# EAGLE library part ATSAM3U4CA (library GadgetFactory_v1)
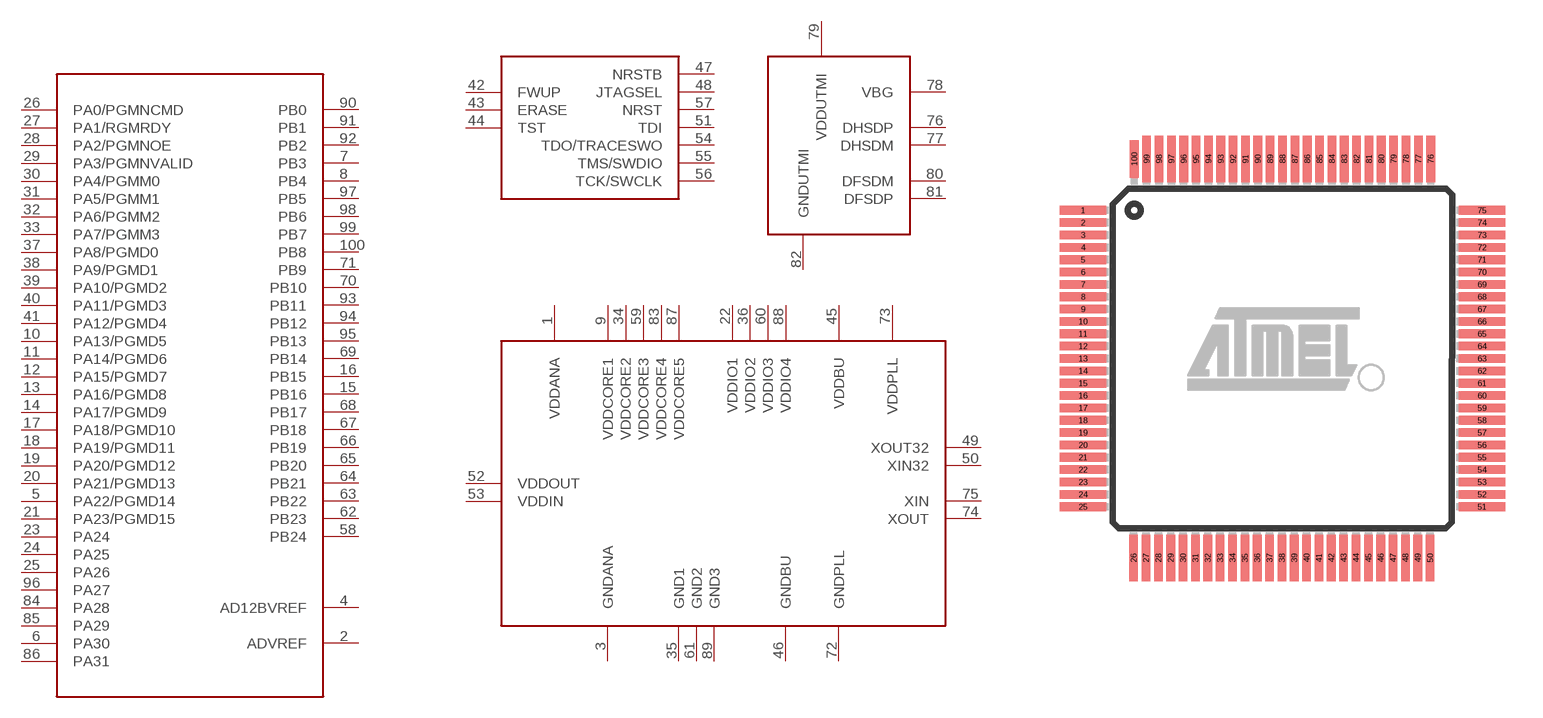
[diagram p51: symbol with the pads of LQFP100; footprint LQFP100]

Designator prefix U; gates IO=ATSAM3U4CA_IO JTAG_PGM=ATSAM3U4CA_JTAG_PGM PWR=ATSAM3U4CA_PWR USB=ATSAM3U4CA_USB

## ATSAM3U4CAAU  [LQFP100]
1  PWR:VDDANA  pwr
2  IO:ADVREF  in
3  PWR:GNDANA  pas
4  IO:AD12BVREF  in
5  IO:PA22/PGMD14
6  IO:PA30
7  IO:PB3
8  IO:PB4
9  PWR:VDDCORE1  pwr
10  IO:PA13/PGMD5
11  IO:PA14/PGMD6
12  IO:PA15/PGMD7
13  IO:PA16/PGMD8
14  IO:PA17/PGMD9
15  IO:PB16
16  IO:PB15
17  IO:PA18/PGMD10
18  IO:PA19/PGMD11
19  IO:PA20/PGMD12
20  IO:PA21/PGMD13
21  IO:PA23/PGMD15
22  PWR:VDDIO1  pwr
23  IO:PA24
24  IO:PA25
25  IO:PA26
26  IO:PA0/PGMNCMD
27  IO:PA1/RGMRDY
28  IO:PA2/PGMNOE
29  IO:PA3/PGMNVALID
30  IO:PA4/PGMM0
31  IO:PA5/PGMM1
32  IO:PA6/PGMM2
33  IO:PA7/PGMM3
34  PWR:VDDCORE2  pwr
35  PWR:GND1  pas
36  PWR:VDDIO2  pwr
37  IO:PA8/PGMD0
38  IO:PA9/PGMD1
39  IO:PA10/PGMD2
40  IO:PA11/PGMD3
41  IO:PA12/PGMD4
42  JTAG_PGM:FWUP  in
43  JTAG_PGM:ERASE  in
44  JTAG_PGM:TST  in
45  PWR:VDDBU  pwr
46  PWR:GNDBU  pas
47  JTAG_PGM:NRSTB  in
48  JTAG_PGM:JTAGSEL  in
49  PWR:XOUT32  out
50  PWR:XIN32  in
51  JTAG_PGM:TDI  in
52  PWR:VDDOUT  out
53  PWR:VDDIN  in
54  JTAG_PGM:TDO/TRACESWO  out
55  JTAG_PGM:TMS/SWDIO  in
56  JTAG_PGM:TCK/SWCLK  in
57  JTAG_PGM:NRST  in
58  IO:PB24
59  PWR:VDDCORE3  pwr
60  PWR:VDDIO3  pwr
61  PWR:GND2  pas
62  IO:PB23
63  IO:PB22
64  IO:PB21
65  IO:PB20
66  IO:PB19
67  IO:PB18
68  IO:PB17
69  IO:PB14
70  IO:PB10
71  IO:PB9
72  PWR:GNDPLL  pas
73  PWR:VDDPLL  pwr
74  PWR:XOUT  out
75  PWR:XIN  in
76  USB:DHSDP  pas
77  USB:DHSDM  pas
78  USB:VBG  in
79  USB:VDDUTMI  pwr
80  USB:DFSDM  pas
81  USB:DFSDP  pas
82  USB:GNDUTMI  pas
83  PWR:VDDCORE4  pwr
84  IO:PA28
85  IO:PA29
86  IO:PA31
87  PWR:VDDCORE5  pwr
88  PWR:VDDIO4  pwr
89  PWR:GND3  pas
90  IO:PB0
91  IO:PB1
92  IO:PB2
93  IO:PB11
94  IO:PB12
95  IO:PB13
96  IO:PA27
97  IO:PB5
98  IO:PB6
99  IO:PB7
100  IO:PB8

## Footprint LQFP100 (pad centres in mm)
LQFP 100 Source: 6120s.pdf
smd 1.9 x 0.35: 1 -8.075,6; 2 -8.075,5.5; 3 -8.075,5; 4 -8.075,4.5; 5 -8.075,4; 6 -8.075,3.5; 7 -8.075,3; 8 -8.075,2.5; 9 -8.075,2; 10 -8.075,1.5; 11 -8.075,1; 12 -8.075,0.5; 13 -8.075,0; 14 -8.075,-0.5; 15 -8.075,-1; 16 -8.075,-1.5; 17 -8.075,-2; 18 -8.075,-2.5; 19 -8.075,-3; 20 -8.075,-3.5; 21 -8.075,-4; 22 -8.075,-4.5; 23 -8.075,-5; 24 -8.075,-5.5; 25 -8.075,-6; 51 8.075,-6; 52 8.075,-5.5; 53 8.075,-5; 54 8.075,-4.5; 55 8.075,-4; 56 8.075,-3.5; 57 8.075,-3; 58 8.075,-2.5; 59 8.075,-2; 60 8.075,-1.5; 61 8.075,-1; 62 8.075,-0.5; 63 8.075,0; 64 8.075,0.5; 65 8.075,1; 66 8.075,1.5; 67 8.075,2; 68 8.075,2.5; 69 8.075,3; 70 8.075,3.5; 71 8.075,4; 72 8.075,4.5; 73 8.075,5; 74 8.075,5.5; 75 8.075,6
smd 0.35 x 1.9: 26 -6.025,-8.075; 27 -5.525,-8.075; 28 -5.025,-8.075; 29 -4.525,-8.075; 30 -4.025,-8.075; 31 -3.525,-8.075; 32 -3.025,-8.075; 33 -2.525,-8.075; 34 -2.025,-8.075; 35 -1.525,-8.075; 36 -1.025,-8.075; 37 -0.525,-8.075; 38 -0.025,-8.075; 39 0.475,-8.075; 40 0.975,-8.075; 41 1.475,-8.075; 42 1.975,-8.075; 43 2.475,-8.075; 44 2.975,-8.075; 45 3.475,-8.075; 46 3.975,-8.075; 47 4.475,-8.075; 48 4.975,-8.075; 49 5.475,-8.075; 50 5.975,-8.075; 76 6,8.075; 77 5.5,8.075; 78 5,8.075; 79 4.5,8.075; 80 4,8.075; 81 3.5,8.075; 82 3,8.075; 83 2.5,8.075; 84 2,8.075; 85 1.5,8.075; 86 1,8.075; 87 0.5,8.075; 88 0,8.075; 89 -0.5,8.075; 90 -1,8.075; 91 -1.5,8.075; 92 -2,8.075; 93 -2.5,8.075; 94 -3,8.075; 95 -3.5,8.075; 96 -4,8.075; 97 -4.5,8.075; 98 -5,8.075; 99 -5.5,8.075
smd 0.35 x 1.5: 100 -6,8.075